# EAGLE library part OPENLOG (library open_hw_sockets)
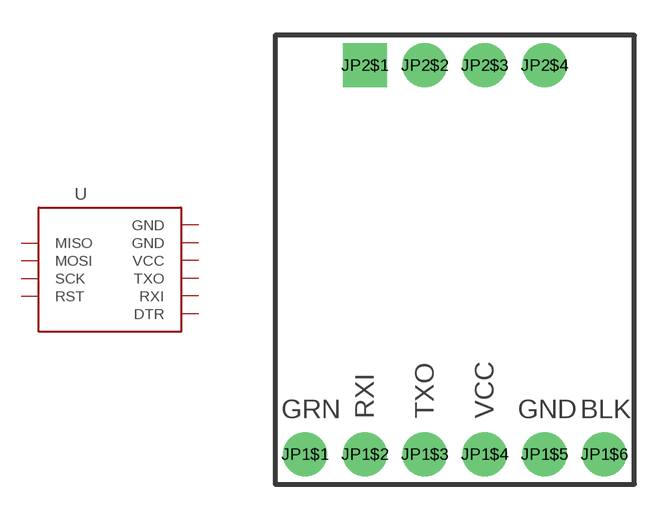
[diagram p0: symbol with the pads of OPENLOG; footprint OPENLOG]

Designator prefix -

## OPENLOG  [OPENLOG]
JP1$1  DTR  in
JP1$2  RXI  in
JP1$3  TXO  out
JP1$4  VCC  pwr
JP1$5  GND  pwr
JP1$6  GND  pwr
JP2$1  RST  in
JP2$2  SCK
JP2$3  MOSI
JP2$4  MISO

## Footprint OPENLOG (pad centres in mm)
drill 1.016 pad 1.88: JP1$1 1.27,1.27; JP1$2 3.81,1.27; JP1$3 6.35,1.27; JP1$4 8.89,1.27; JP1$5 11.43,1.27; JP1$6 13.97,1.27; JP2$2 6.35,17.78; JP2$3 8.89,17.78; JP2$4 11.43,17.78
drill 1.016 pad 1.88 square: JP2$1 3.81,17.78